# Altium schematic symbol library Schlib_3Peak.SchLib: 20 symbols
Pins are listed as number, name and electrical type; pins without a type are passive.

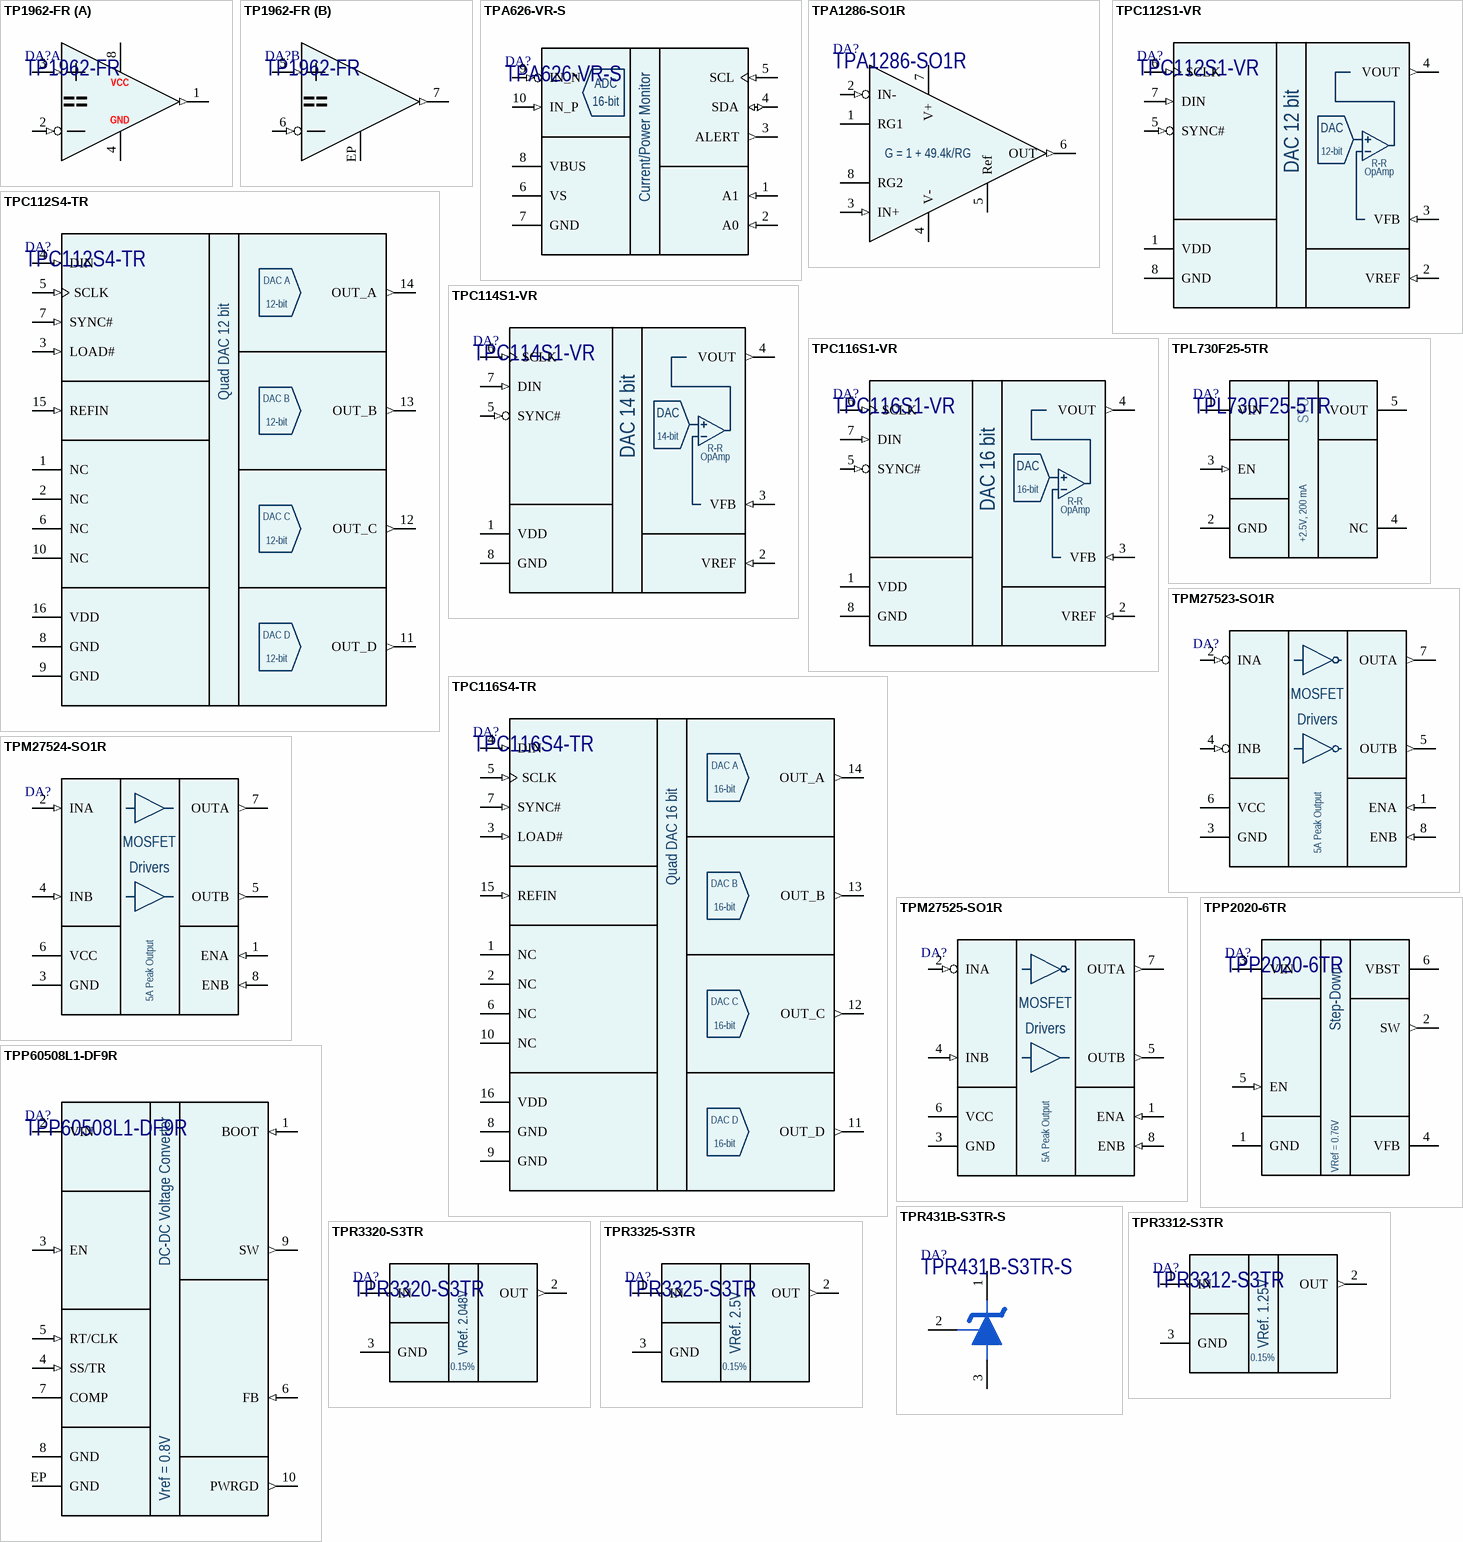
[diagram p0: symbols TP1962-FR to TPR3325-S3TR]

## TP1962-FR
designator DA?
7ns, Ultra-High-Speed, +3V/+5V, Beyond-the-Rails Comparators; Manufacturer: 3PEAK; Part Number: TP1962-FR; Package: DFN-8
footprint DFN-8_TP1962 (DFN 2mm x 2mm, 0.5mm pitch)
part A pins: 1 1OUT (out), 2 1IN- (in), 3 1IN+ (in), 4 GND (power), 8 VCC (power)
part B pins: 5 2IN+ (in), 6 2IN- (in), 7 2OUT (out), EP GND (power)

## TPA626-VR-S
designator DA?
Bi-Directional Current and Power Monitor; Manufacturer: 3PEAK; AltManufacturer: Texas Instruments; Alternative: INA226AIDGS; Part Number: TPA626-VR-S; Package: MSOP-10
footprint MSOP-10 (TSOP, 8-Leads, Body 3.00x3.00mm, Pitch 0.65mm, IPC Medium Density)
pins: 1 A1 (in), 2 A0 (in), 3 ALERT (out), 4 SDA (io), 5 SCL (in), 6 VS (power), 7 GND (power), 8 VBUS (power), 9 IN_N (in), 10 IN_P (in)
text: ADC; 16-bit; Current/Power Monitor

## TPA1286-SO1R
designator DA?
High Voltage, Precision, Zero-drift, Instrumentation Amplifier; Manufacturer: 3PEAK; Part Number: TPA1286-SO1R; Package: SOIC-8
footprint SOIC-8 (SOIC-8 package)
footprint SOIC-8_with_DIP-8 (Plastic DIP, 8 pin, lead pitch 2.54mm (0.1"), row spacing 7.62mm (0.3").)
pins: 1 RG1, 2 IN- (in), 3 IN+ (in), 4 V- (power), 5 Ref, 6 OUT (out), 7 V+ (power), 8 RG2
text: G = 1 + 49.4k/RG

## TPC112S1-VR
designator DA?
Single, Low Power, High Performance DACs; Manufacturer: 3PEAK; Package: MSOP-8; Part Number: TPC112S1-VR
footprint MSOP-8 (TSOP, 8-Leads, Body 3.00x3.00mm, Pitch 0.65mm, IPC Medium Density)
pins: 1 VDD (power), 2 VREF (in), 3 VFB (in), 4 VOUT (out), 5 SYNC# (in), 6 SCLK (in), 7 DIN (in), 8 GND (power)
text: DAC; DAC 12 bit; 12-bit; R-R; OpAmp

## TPC112S4-TR
designator DA?
Quad 12‐Bit, Low Power, High Performance DACs; Manufacturer: 3PEAK; Part Number: TPC112S4-TR; Package: TSSOP-16
footprint TSSOP-16 (TSOP, 20-Leads, Body 6.50x4.40mm, Pitch 0.65mm, IPC Medium Density)
pins: 1 NC (hiz), 2 NC (hiz), 3 LOAD# (in), 4 DIN (in), 5 SCLK (in), 6 NC (hiz), 7 SYNC# (in), 8 GND (power), 9 GND (power), 10 NC (hiz), 11 OUT_D (out), 12 OUT_C (out), 13 OUT_B (out), 14 OUT_A (out), 15 REFIN (in), 16 VDD (power)
text: DAC A; 12-bit; Quad DAC 12 bit; DAC B; DAC C; DAC D

## TPC114S1-VR
designator DA?
Single, Low Power, High Performance DACs; Manufacturer: 3PEAK; Package: MSOP-8; Part Number: TPC114S1-VR
footprint MSOP-8 (TSOP, 8-Leads, Body 3.00x3.00mm, Pitch 0.65mm, IPC Medium Density)
pins: 1 VDD (power), 2 VREF (in), 3 VFB (in), 4 VOUT (out), 5 SYNC# (in), 6 SCLK (in), 7 DIN (in), 8 GND (power)
text: DAC; DAC 14 bit; 14-bit; R-R; OpAmp

## TPC116S1-VR
designator DA?
Single, Low Power, High Performance DACs; Manufacturer: 3PEAK; Package: MSOP-8; Part Number: TPC116S1-VR
footprint MSOP-8 (TSOP, 8-Leads, Body 3.00x3.00mm, Pitch 0.65mm, IPC Medium Density)
pins: 1 VDD (power), 2 VREF (in), 3 VFB (in), 4 VOUT (out), 5 SYNC# (in), 6 SCLK (in), 7 DIN (in), 8 GND (power)
text: DAC; DAC 16 bit; 16-bit; R-R; OpAmp

## TPC116S4-TR
designator DA?
Quad 16‐Bit, Low Power, High Performance DACs; Manufacturer: 3PEAK; Part Number: TPC116S4-TR; Package: TSSOP-16
footprint TSSOP-16 (TSOP, 20-Leads, Body 6.50x4.40mm, Pitch 0.65mm, IPC Medium Density)
pins: 1 NC (hiz), 2 NC (hiz), 3 LOAD# (in), 4 DIN (in), 5 SCLK (in), 6 NC (hiz), 7 SYNC# (in), 8 GND (power), 9 GND (power), 10 NC (hiz), 11 OUT_D (out), 12 OUT_C (out), 13 OUT_B (out), 14 OUT_A (out), 15 REFIN (in), 16 VDD (power)
text: DAC A; 16-bit; Quad DAC 16 bit; DAC B; DAC C; DAC D

## TPL730F25-5TR
designator DA?
300 mA output, High PSRR, Low-Dropout Linear Regulator; Manufacturer: 3PEAK; Part Number: TPL730F25-5TR; Package: SOT23-5
footprint SOT23-5 (SOT23, 6-Leads, Body 2.90x2.80mm, Pitch 0.95mm, IPC Medium Density)
pins: 1 VIN (power), 2 GND (power), 3 EN (in), 4 NC (hiz), 5 VOUT (power)
text: STU; +2.5V, 200 mA

## TPM27523-SO1R
designator DA?  (value not drawn)
Dual 5-A High-speed, Low-side Gate Driver; Manufacturer: 3PEAK; Package: SOIC8 (150 mil); Part Number: TPM27523-SO1R
footprint SOIC-8 (SOIC-8 package)
pins: 1 ENA (in), 2 INA (in), 3 GND (power), 4 INB (in), 5 OUTB (out), 6 VCC (power), 7 OUTA (out), 8 ENB (in)
text: MOSFET; Drivers; 5A Peak Output

## TPM27524-SO1R
designator DA?  (value not drawn)
Dual 5-A High-speed, Low-side Gate Driver; Manufacturer: 3PEAK; Package: SOIC8 (150 mil); Part Number: TPM27524-SO1R
footprint SOIC-8 (SOIC-8 package)
pins: 1 ENA (in), 2 INA (in), 3 GND (power), 4 INB (in), 5 OUTB (out), 6 VCC (power), 7 OUTA (out), 8 ENB (in)
text: MOSFET; Drivers; 5A Peak Output

## TPM27525-SO1R
designator DA?  (value not drawn)
Dual 5-A High-speed, Low-side Gate Driver; Manufacturer: 3PEAK; Package: SOIC8 (150 mil); Part Number: TPM27525-SO1R
footprint SOIC-8 (SOIC-8 package)
pins: 1 ENA (in), 2 INA (in), 3 GND (power), 4 INB (in), 5 OUTB (out), 6 VCC (power), 7 OUTA (out), 8 ENB (in)
text: MOSFET; Drivers; 5A Peak Output

## TPP2020-6TR
designator DA?
17-V Input, 2-A Synchronous Step-Down Voltage Regulator; Manufacturer: 3PEAK; Part Number: TPP2020-6TR; Package: TSOT23-6
footprint TSOT23-6
pins: 1 GND (power), 2 SW (out), 3 VIN (power), 4 VFB, 5 EN (in), 6 VBST
text: Step-Down; VRef = 0.76V

## TPP60508L1-DF9R
designator DA?
60-V Input, 5-A, Non-Synchronous Step-Down DC-DC Voltage Converter; Manufacturer: 3PEAK; Part Number: TPP60508L1-DF9R; Package: DFN10(4x4)
footprint DFN4X4-10-A (DFN-10 package with 0.8mm pitch)
pins: 1 BOOT (in), 2 VIN (power), 3 EN (in), 4 SS/TR (in), 5 RT/CLK (in), 6 FB (in), 7 COMP, 8 GND (power), 9 SW (out), 10 PWRGD (out), EP GND (power)
text: DC-DC Voltage Converter; Vref = 0.8V

## TPR431B-S3TR-S
designator DA?
Precision Programmable Reference; Manufacturer: 3PEAK; Part Number: TPR431B-S3TR-S; Package: SOT23-3
footprint SOT23-3 (SOT23, 6-Leads, Body 2.90x2.80mm, Pitch 0.95mm, IPC Medium Density)
pins: 1 CATHODE, 2 REF, 3 ANODE

## TPR3312-S3TR
designator DA?
30 ppm/°C 1.25V Voltage Reference; Manufacturer: 3PEAK; Part Number: TPR3312-S3TR; Package: SOT23-3
footprint SOT23-3 (SOT23, 6-Leads, Body 2.90x2.80mm, Pitch 0.95mm, IPC Medium Density)
pins: 1 IN (power), 2 OUT (out), 3 GND (power)
text: VRef. 1.25V; 0.15%

## TPR3320-S3TR
designator DA?
30 ppm/°C 2.048V Voltage Reference; Manufacturer: 3PEAK; Part Number: TPR3320-S3TR; Package: SOT23-3
footprint SOT23-3 (SOT23, 6-Leads, Body 2.90x2.80mm, Pitch 0.95mm, IPC Medium Density)
pins: 1 IN (power), 2 OUT (out), 3 GND (power)
text: VRef. 2.048V; 0.15%

## TPR3325-S3TR
designator DA?
30 ppm/°C 2.5V Voltage Reference; Manufacturer: 3PEAK; Part Number: TPR3325-S3TR; Package: SOT23-3
footprint SOT23-3 (SOT23, 6-Leads, Body 2.90x2.80mm, Pitch 0.95mm, IPC Medium Density)
pins: 1 IN (power), 2 OUT (out), 3 GND (power)
text: VRef. 2.5V; 0.15%

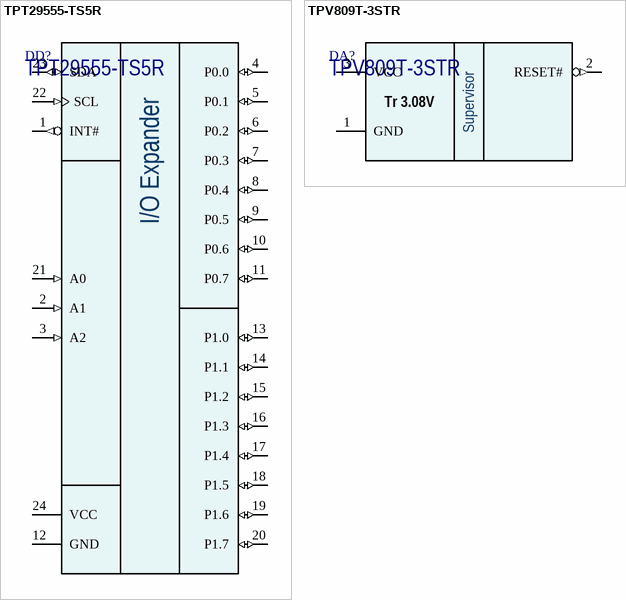
[diagram p1: symbols TPT29555-TS5R to TPV809T-3STR]

## TPT29555-TS5R
designator DD?
I2C to 16-bit GPIO Expander with Interrupt; Manufacturer: 3PEAK; AltManufacturer: NXP; Alternative: PCA9535PW,118; Package: TSSOP-24; Part Number: TPT29555-TS5R
footprint TSSOP-24 (TSOP, 24-Leads, Pitch 0.65mm, IPC Medium Density)
pins: 1 INT# (out), 2 A1 (in), 3 A2 (in), 4 P0.0 (io), 5 P0.1 (io), 6 P0.2 (io), 7 P0.3 (io), 8 P0.4 (io), 9 P0.5 (io), 10 P0.6 (io), 11 P0.7 (io), 12 GND (power), 13 P1.0 (io), 14 P1.1 (io), 15 P1.2 (io), 16 P1.3 (io), 17 P1.4 (io), 18 P1.5 (io), 19 P1.6 (io), 20 P1.7 (io), 21 A0 (in), 22 SCL (in), 23 SDA (io), 24 VCC (power)
text: I/O Expander

## TPV809T-3STR
designator DA?
Low Voltage Supervisory Circuit; Manufacturer: 3PEAK; Part Number: TPV809T-3STR; Package: SOT23-3
footprint SOT23-3 (SOT23, 6-Leads, Body 2.90x2.80mm, Pitch 0.95mm, IPC Medium Density)
pins: 1 GND (power), 2 RESET# (out), 3 VCC (power)
text: Tr 3.08V; Supervisor